# EAGLE library part LM2672 (library Particle)
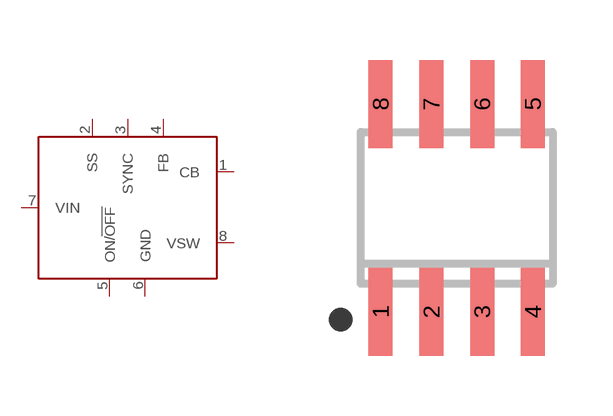
[diagram p7: symbol with the pads of SO08; footprint SO08]

Designator prefix -

## LM2672  [SO08]
1  CB
2  SS
3  SYNC
4  FB
5  ON/!OFF
6  GND  pwr
7  VIN  pwr
8  VSW

## Footprint SO08 (pad centres in mm)
SMALL OUTLINE INTEGRATED CIRCUIT body 3.9 mm/JEDEC MS-012AA
smd 0.6 x 2.2: 1 -1.905,-2.6; 2 -0.635,-2.6; 3 0.635,-2.6; 4 1.905,-2.6; 5 1.905,2.6; 6 0.635,2.6; 7 -0.635,2.6; 8 -1.905,2.6